# Altium footprint library LABLIB.PcbLib: 94 footprints (part 6 of 6)
Each footprint in its own frame and in the unit in brackets; x right, y up, seen from the top. Pads: shape width x height; smd on the part's side, far side on the other; paste and mask are expansions set on the pad; w line width, h text height; cw(c..) or ccw(c..) is an arc to the next point about the centre after c.
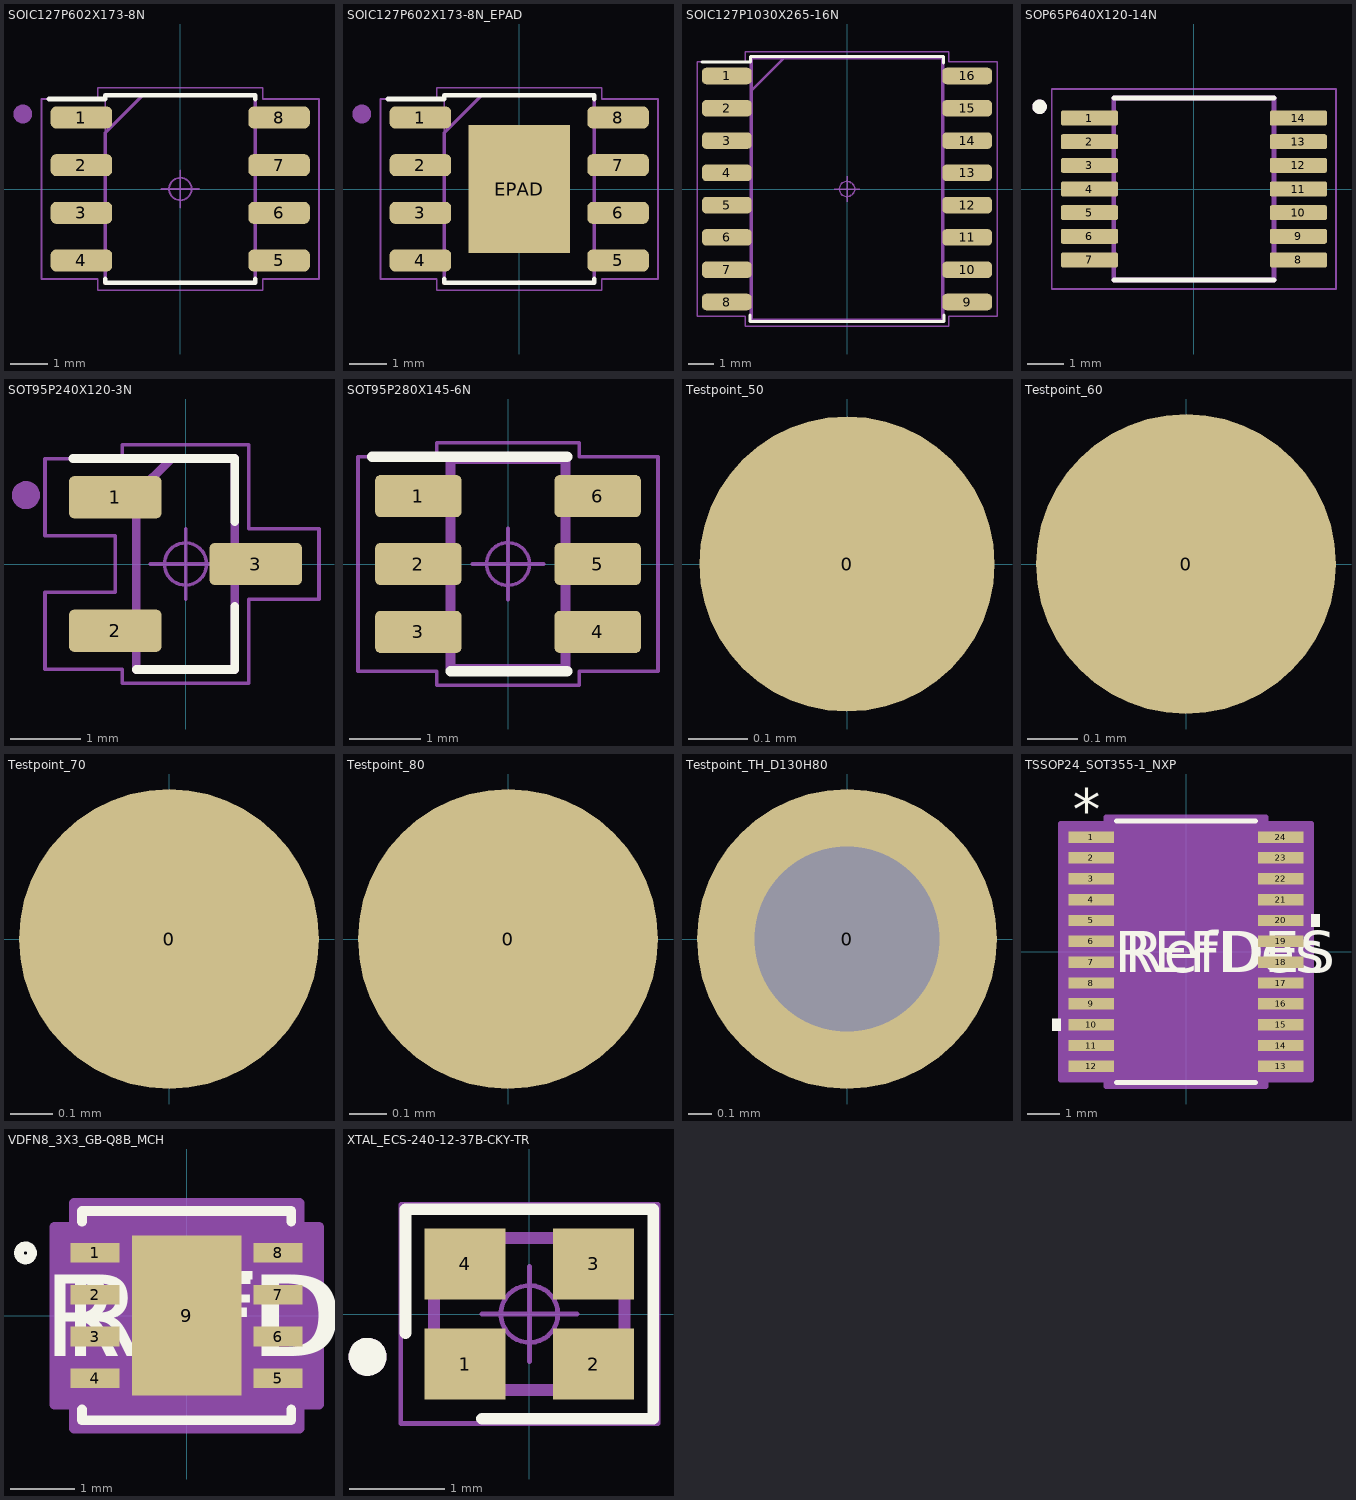
[diagram p5: the footprints below, top view; thin cyan lines are the x and y axes]

## SOIC127P602X173-8N [mm]
pads (8):
  rrect50% 1.64x0.59 smd: 1(-2.635,1.905) 2(-2.635,0.635) 3(-2.635,-0.635) 4(-2.635,-1.905) 5(2.635,-1.905) 6(2.635,-0.635) 7(2.635,0.635) 8(2.635,1.905)
Top Overlay:
  lines w0.125: -3.5,2.4 -2,2.4 -2,2.5 2,2.5 2,2.4 ; -2,-2.4 -2,-2.5 2,-2.5 2,-2.4
Top Assembly:
  lines w0.1: -2,-2.5 2,-2.5 2,2.5 -1,2.5 -2,1.5 -2,-2.5
  text "'.Designator'" at -3.952,-0.622 h1.5
Top Courtyard:
  lines w0.05: -3.7,-2.4 -3.7,2.4 -2.2,2.4 -2.2,2.7 2.2,2.7 2.2,2.4 3.7,2.4 3.7,-2.4 2.2,-2.4 2.2,-2.7 -2.2,-2.7 -2.2,-2.4 -3.7,-2.4
Top Component Outline:
  region: 3.123,1.645 3.123,2.165 2.234,2.165 2.234,1.645
  region: 2.211,0.892 2.211,0.372 3.1,0.372 3.1,0.892
  region: 3.123,-0.895 3.123,-0.375 2.234,-0.375 2.234,-0.895
  region: 2.211,-1.645 2.211,-2.165 3.1,-2.165 3.1,-1.645
  region: -2.211,-2.165 -2.211,-1.645 -3.1,-1.645 -3.1,-2.165
  region: -2.211,1.645 -2.211,2.165 -3.1,2.165 -3.1,1.645
  region: -2.211,0.375 -2.211,0.895 -3.1,0.895 -3.1,0.375
  region: -2.211,-0.895 -2.211,-0.375 -3.1,-0.375 -3.1,-0.895
  lines w0.05: -2,-2.5 -2,2.5 2,2.5 2,-2.5 -2,-2.5
Top Component Center:
  circle w0.05: c0,0 r0.3
  lines w0.05: -0.5,0 0.5,0 ; 0,-0.5 0,0.5
Mechanical 13:
  circle w0.3: c-4.2,2 r0.1
3D body "MB85RS2MTAPNF-G-BDERE1.STEP": height 1.73, standoff 0, extent -3.01,-2.565 3.01,2.565

## SOIC127P602X173-8N_EPAD [mm]
pads (9):
  rrect50% 1.64x0.59 smd: 1(-2.635,1.905) 2(-2.635,0.635) 3(-2.635,-0.635) 4(-2.635,-1.905) 5(2.635,-1.905) 6(2.635,-0.635) 7(2.635,0.635) 8(2.635,1.905)
  rect 2.718x3.404 smd paste-0.159: EPAD(0,0)
Top Overlay:
  lines w0.125: -3.5,2.4 -2,2.4 -2,2.5 2,2.5 2,2.4 ; -2,-2.4 -2,-2.5 2,-2.5 2,-2.4
Top Assembly:
  lines w0.1: -2,-2.5 -2,1.5 -1,2.5 2,2.5 2,-2.5 -2,-2.5
  text "'.Designator'" at -3.952,-0.622 h1.5
Top Courtyard:
  lines w0.05: -3.7,-2.4 -2.2,-2.4 -2.2,-2.7 2.2,-2.7 2.2,-2.4 3.7,-2.4 3.7,2.4 2.2,2.4 2.2,2.7 -2.2,2.7 -2.2,2.4 -3.7,2.4 -3.7,-2.4
Top Component Outline:
  region: -2.211,-0.895 -2.211,-0.375 -3.1,-0.375 -3.1,-0.895
  region: -2.211,0.375 -2.211,0.895 -3.1,0.895 -3.1,0.375
  region: -2.211,1.645 -2.211,2.165 -3.1,2.165 -3.1,1.645
  region: -2.211,-2.165 -2.211,-1.645 -3.1,-1.645 -3.1,-2.165
  region: 2.211,-1.645 2.211,-2.165 3.1,-2.165 3.1,-1.645
  region: 3.123,-0.895 3.123,-0.375 2.234,-0.375 2.234,-0.895
  region: 2.211,0.892 2.211,0.372 3.1,0.372 3.1,0.892
  region: 3.123,1.645 3.123,2.165 2.234,2.165 2.234,1.645
  lines w0.05: -2,-2.5 2,-2.5 2,2.5 -2,2.5 -2,-2.5
Top Component Center:
  circle w0.05: c0,0 r0.3
  lines w0.05: -0.5,0 0.5,0 ; 0,-0.5 0,0.5
Mechanical 13:
  circle w0.3: c-4.2,2 r0.1
3D body "MB85RS2MTAPNF-G-BDERE1.STEP": height 1.73, standoff 0, extent -3.01,-2.565 3.01,2.565

## SOIC127P1030X265-16N [mm]
pads (16):
  rrect50% 1.95x0.65 smd: 1(-4.725,4.445) 2(-4.725,3.175) 3(-4.725,1.905) 4(-4.725,0.635) 5(-4.725,-0.635) 6(-4.725,-1.905) 7(-4.725,-3.175) 8(-4.725,-4.445) 9(4.725,-4.445) 10(4.725,-3.175) 11(4.725,-1.905) 12(4.725,-0.635) 13(4.725,0.635) 14(4.725,1.905) 15(4.725,3.175) 16(4.725,4.445)
Top Overlay:
  lines w0.125: -5.7,5 -3.8,5 -3.8,5.207 3.8,5.207 3.8,4.953 ; -3.81,-4.953 -3.81,-5.207 3.81,-5.207 3.81,-4.953
Top Assembly:
  lines w0.1: -3.75,3.88 -2.48,5.15 ; -3.75,-5.15 -3.75,5.15 3.75,5.15 3.75,-5.15 -3.75,-5.15
  text "'.Designator'" at -3.952,-0.622 h1.5
Top Courtyard:
  lines w0.05: -5.9,-5 -5.9,5 -4,5 -4,5.4 3.8,5.4 4,5.4 4,5 5.9,5 5.9,-5 4,-5 4,-5.4 -4,-5.4 -4,-5 -5.9,-5
Top Component Outline:
  region: 5.315,-4.19 4.045,-4.19 4.045,-4.7 5.315,-4.7
  region: 5.315,-2.92 4.045,-2.92 4.045,-3.43 5.315,-3.43
  region: 5.315,-1.65 4.045,-1.65 4.045,-2.16 5.315,-2.16
  region: 5.315,4.7 4.045,4.7 4.045,4.19 5.315,4.19
  region: 5.315,3.43 4.045,3.43 4.045,2.92 5.315,2.92
  region: 5.315,2.16 4.045,2.16 4.045,1.65 5.315,1.65
  region: 5.315,0.89 4.045,0.89 4.045,0.38 5.315,0.38
  region: 5.315,-0.38 4.045,-0.38 4.045,-0.89 5.315,-0.89
  rectangle: -5.315,4.19 -4.045,4.7
  rectangle: -5.315,2.92 -4.045,3.43
  rectangle: -5.315,1.65 -4.045,2.16
  rectangle: -5.315,-4.7 -4.045,-4.19
  rectangle: -5.315,-3.43 -4.045,-2.92
  rectangle: -5.315,-2.16 -4.045,-1.65
  rectangle: -5.315,-0.89 -4.045,-0.38
  rectangle: -5.315,0.38 -4.045,0.89
  lines w0.05: -3.8,-5.2 -3.8,5.2 3.8,5.2 3.8,-5.2 -3.8,-5.2
Top Component Center:
  circle w0.05: c0,0 r0.3
  lines w0.05: -0.5,0 0.5,0 ; 0,-0.5 0,0.5
3D body "ISO1430DW.stp": height 2.65, standoff 0, extent -5.15,-5.15 5.15,5.15

## SOP65P640X120-14N [mm]
pads (14):
  rrect25% 1.57x0.41 smd: 1(-2.87,1.95) 2(-2.87,1.3) 3(-2.87,0.65) 4(-2.87,0) 5(-2.87,-0.65) 6(-2.87,-1.3) 7(-2.87,-1.95) 8(2.87,-1.95) 9(2.87,-1.3) 10(2.87,-0.65) 11(2.87,0) 12(2.87,0.65) 13(2.87,1.3) 14(2.87,1.95)
Top Overlay:
  circle w0.2: c-4.24,2.26 r0.1
  lines w0.127: -2.2,-2.5 2.2,-2.5 ; -2.2,2.5 2.2,2.5
Mechanical 13:
  circle w0.2: c-4.24,2.26 r0.1
  lines w0.127: -2.2,-2.5 -2.2,2.5 2.2,2.5 2.2,-2.5 -2.2,-2.5
Mechanical 15:
  lines w0.05: -3.905,-2.75 -3.905,2.75 3.905,2.75 3.905,-2.75 -3.905,-2.75
3D body "step_temp.STEP": height 1.2, standoff 0, extent -3.2,-2.5 3.2,2.5

## SOT95P240X120-3N [mm]
height 1.2
pads (3):
  rrect25% 1.32x0.6 smd: 1(-1,0.95) 2(-1,-0.95) 3(1,0)
Top Overlay:
  lines w0.125: -1.6,1.5 0.6,1.5 0.7,1.5 0.7,0.6 ; -0.7,-1.5 0.7,-1.5 0.7,-0.6
Top Assembly:
  lines w0.125: -0.7,-1.5 -0.7,1 -0.2,1.5 0.7,1.5 0.7,-1.5 -0.7,-1.5
  text "'.Designator'" at -3.952,-0.622 h1.5
Top Courtyard:
  lines w0.05: -2,-1.5 -0.9,-1.5 -0.9,-1.7 0.9,-1.7 0.9,-0.5 1.9,-0.5 1.9,0.5 0.9,0.5 0.9,1.7 -0.9,1.7 -0.9,1.5 -2,1.5 -2,0.4 -1,0.4 -1,-0.4 -2,-0.4 -2,-1.5
Top Component Center:
  circle w0.05: c0,0 r0.3
  lines w0.05: -0.5,0 0.5,0 ; 0,-0.5 0,0.5
Mechanical 13:
  circle w0.2: c-2.27,0.98 r0.1
3D body "step_temp.STEP": height 1.2, standoff -0.1, extent -1.3,-1.52 1.3,1.52

## SOT95P280X145-6N [mm]
pads (6):
  rrect25% 1.21x0.59 smd: 1(-1.255,0.95) 2(-1.255,0) 3(-1.255,-0.95) 4(1.255,-0.95) 5(1.255,0) 6(1.255,0.95)
Top Overlay:
  lines w0.15: -1.9,1.5 0.825,1.5 ; -0.8,-1.5 0.825,-1.5
Top Assembly:
  lines w0.125: -0.8,-1.5 -0.8,1.5 0.8,1.5 0.8,-1.5 -0.8,-1.5
  text "'.Designator'" at -3.952,-0.622 h1.5
Top Courtyard:
  lines w0.05: -2.1,-1.5 -1,-1.5 -1,-1.7 1,-1.7 1,-1.5 2.1,-1.5 2.1,1.5 1,1.5 1,1.7 -1,1.7 -1,1.5 -2.1,1.5 -2.1,1.3 -2.1,-1.5
Top Component Center:
  circle w0.05: c0,0 r0.3
  lines w0.05: -0.5,0 0.5,0 ; 0,-0.5 0,0.5
Mechanical 13:
  lines w0.127: -0.813,-1.462 -0.813,1.462 0.813,1.462 0.813,-1.462 -0.813,-1.462
3D body "step_temp.STEP": height 1.4, standoff -0.05, extent -1.4,-1.462 1.4,1.462

## Testpoint_50 [mm]
pads (1):
  round 0.5 smd paste-2539.97 mask+0: 0(0,0)

## Testpoint_60 [mm]
pads (1):
  round 0.6 smd paste-2539.97 mask+0: 0(0,0)

## Testpoint_70 [mm]
pads (1):
  round 0.7 smd paste-2539.97 mask+0: 0(0,0)

## Testpoint_80 [mm]
pads (1):
  round 0.8 smd paste-2539.97 mask+0: 0(0,0)

## Testpoint_TH_D130H80 [mm]
pads (1):
  round 1.3 hole 0.8 paste-2539.97 mask+0: 0(0,0)

## TSSOP24_SOT355-1_NXP [mil]
pads (24):
  rect 55.5x14 smd paste+0 mask+0: 1(-116.25,140.75) 2(-116.25,115.16) 3(-116.25,89.57) 4(-116.25,63.98) 5(-116.25,38.39) 6(-116.25,12.8) 7(-116.25,-12.8) 8(-116.25,-38.39) 9(-116.25,-63.98) 10(-116.25,-89.57) 11(-116.25,-115.16) 12(-116.25,-140.75) 13(116.25,-140.75) 14(116.25,-115.16) 15(116.25,-89.57) 16(116.25,-63.98) 17(116.25,-38.39) 18(116.25,-12.8) 19(116.25,12.8) 20(116.25,38.39) 21(116.25,63.98) 22(116.25,89.57) 23(116.25,115.16) 24(116.25,140.75)
Top Overlay:
  region: 154,45.89 164,45.89 164,30.89 154,30.89
  region: -154,-82.07 -164,-82.07 -164,-97.07 -154,-97.07
  lines w6: -85.5,-160.5 85.5,-160.5 ; -85.5,160.5 85.5,160.5
  text "REFDES" at -87.5,-25 h50
  text "RefDes" at -75,-25 h50
  text "*" at -138.75,149.75 h50
Mechanical 13:
  lines w0: -12,155.5 ccw(c0,155.5) 12,155.5
  lines w1: -130,-146.75 -88.5,-146.75 -88.5,-134.75 -130,-134.75 -130,-146.75 ; -130,-121.16 -88.5,-121.16 -88.5,-109.16 -130,-109.16 -130,-121.16 ; -130,-95.57 -88.5,-95.57 -88.5,-83.57 -130,-83.57 -130,-95.57 ; -130,-69.98 -88.5,-69.98 -88.5,-57.98 -130,-57.98 -130,-69.98 ; -130,-44.39 -88.5,-44.39 -88.5,-32.39 -130,-32.39 -130,-44.39 ; -130,-18.8 -88.5,-18.8 -88.5,-6.8 -130,-6.8 -130,-18.8 ; -130,6.8 -88.5,6.8 -88.5,18.8 -130,18.8 -130,6.8 ; -130,32.39 -88.5,32.39 -88.5,44.39 -130,44.39 -130,32.39 ; -130,57.98 -88.5,57.98 -88.5,69.98 -130,69.98 -130,57.98 ; -130,83.57 -88.5,83.57 -88.5,95.57 -130,95.57 -130,83.57 ; -130,109.16 -88.5,109.16 -88.5,121.16 -130,121.16 -130,109.16 ; -130,134.75 -88.5,134.75 -88.5,146.75 -130,146.75 -130,134.75 ; -88.5,-155.5 -88.5,155.5 88.5,155.5 88.5,-155.5 -88.5,-155.5 ; 88.5,-146.75 130,-146.75 130,-134.75 88.5,-134.75 88.5,-146.75 ; 88.5,-121.16 130,-121.16 130,-109.16 88.5,-109.16 88.5,-121.16 ; 88.5,-95.57 130,-95.57 130,-83.57 88.5,-83.57 88.5,-95.57 ; 88.5,-69.98 130,-69.98 130,-57.98 88.5,-57.98 88.5,-69.98 ; 88.5,-44.39 130,-44.39 130,-32.39 88.5,-32.39 88.5,-44.39 ; 88.5,-18.8 130,-18.8 130,-6.8 88.5,-6.8 88.5,-18.8 ; 88.5,6.8 130,6.8 130,18.8 88.5,18.8 88.5,6.8 ; 88.5,32.39 130,32.39 130,44.39 88.5,44.39 88.5,32.39 ; 88.5,57.98 130,57.98 130,69.98 88.5,69.98 88.5,57.98 ; 88.5,83.57 130,83.57 130,95.57 88.5,95.57 88.5,83.57 ; 88.5,109.16 130,109.16 130,121.16 88.5,121.16 88.5,109.16 ; 88.5,134.75 130,134.75 130,146.75 88.5,146.75 88.5,134.75
  text "RefDes2" at -87.5,-25 h50
  text "*" at -86,102.5 h50
Mechanical 15:
  region: -98.5,-157.75 -154,-157.75 -154,157.75 -98.5,157.75 -98.5,165.5 98.5,165.5 98.5,157.75 154,157.75 154,-157.75 98.5,-157.75 98.5,-165.5 -98.5,-165.5
  lines w6: -154,-157.75 -98.5,-157.75 -98.5,-165.5 98.5,-165.5 98.5,-157.75 154,-157.75 154,157.75 98.5,157.75 98.5,165.5 -98.5,165.5 -98.5,157.75 -154,157.75 -154,-157.75
3D body "TSSOP24_SOT355-1_NXP.step": height 43.11, standoff 0, extent -130,-155.51 130,155.51

## VDFN8_3X3_GB-Q8B_MCH [mil]
pads (9):
  rect 30x12 smd paste+0 mask+0: 1(-56,38.39) 2(-56,12.8) 3(-56,-12.8) 4(-56,-38.39) 5(56,-38.39) 6(56,-12.8) 7(56,12.8) 8(56,38.39)
  rect 67x98 smd paste+0 mask+0: 9(0,0)
Top Overlay:
  circle w6: c-98.59,38.39 r4
  lines w6: -64,-57.49 -64,-64 64,-64 64,-57.49 ; -64,57.49 -64,64 64,64 64,57.49
  text "REFDES" at -87.5,-25 h50
  text "RefDes" at -75,-25 h50
Mechanical 13:
  circle w0: c-41,38.39 r3
  lines w0: -12,59 ccw(c0,59) 12,59
  lines w1: -59,-59 -59,59 59,59 59,-59 -59,-59
  text "RefDes2" at -87.5,-25 h50
Mechanical 15:
  region: -69,-54.39 -81,-54.39 -81,54.39 -69,54.39 -69,69 69,69 69,54.39 81,54.39 81,-54.39 69,-54.39 69,-69 -69,-69
  lines w6: -81,-54.39 -69,-54.39 -69,-69 69,-69 69,-54.39 81,-54.39 81,54.39 69,54.39 69,69 -69,69 -69,54.39 -81,54.39 -81,-54.39
3D body "VDFN8_3X3_GB-Q8B_MCH.step": height 35.12, standoff 0, extent -59.02,-59.02 59.02,59.02

## XTAL_ECS-240-12-37B-CKY-TR [mm]
pads (4):
  rect 0.85x0.75 smd mask+0.05: 1(-0.675,-0.525) 2(0.675,-0.525) 3(0.675,0.525) 4(-0.675,0.525)
Top Overlay:
  circle w0.2: c-1.7,-0.45 r0.1
  lines w0.125: -1.3,-0.2 -1.3,0.5 -1.3,1.1 1.3,1.1 1.3,-1.1 -0.5,-1.1
Top Assembly:
  lines w0.125: -1,-0.8 -1,0.8 1,0.8 1,-0.8 -1,-0.8
  text "'.Designator'" at -3.952,-0.622 h1.5
Top Component Center:
  circle w0.05: c0,0 r0.3
  lines w0.05: -0.5,0 0.5,0 ; 0,-0.5 0,0.5
Mechanical 13:
  circle w0.2: c-1.7,-0.45 r0.1
  lines w0.127: -1,-0.8 -1,0.8 1,0.8 1,-0.8 -1,-0.8
Mechanical 15:
  lines w0.05: -1.35,-1.15 -1.35,1.15 1.35,1.15 1.35,-1.15 -1.35,-1.15
3D body "step_temp.STEP": height 0.5, standoff 0, extent -1,-0.8 1,0.8